# Altium schematic symbol library 100TXW270MEFC10X50.SchLib: 2 symbols
Pins are listed as number, name and electrical type; pins without a type are passive.

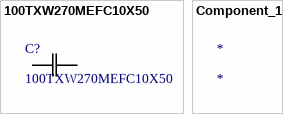
[diagram p0: symbols 100TXW270MEFC10X50 to Component_1]

## 100TXW270MEFC10X50
designator C?
No Description Available; Mfr_Name: Rubycon; Type: DEV; Copyright: Copyright (C) 2022 Ultra Librarian. All rights reserved.; Manufacturer_Part_Number: 100TXW270MEFC10X50; Digi-Key_Part_Number_1: 1189-1017-ND; RefDes: RefDes
footprint CAP_TXW_10X50_LOW_RUB
pins: 1, 2

## Component_1
designator *